# EAGLE library part THS4062 (library texas-instruments)
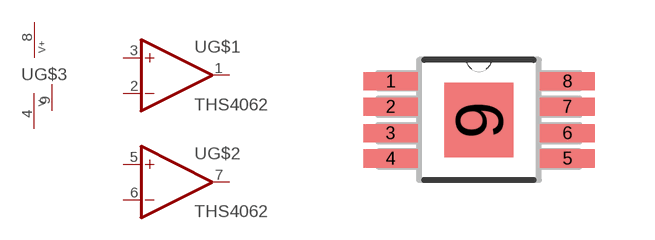
[diagram p29: symbol with the pads of MSOP08-POWERPAD1; footprint MSOP08-POWERPAD1]

Designator prefix U; gates G$1=OC G$2=OC G$3=PWR+-THERM

## THS4062PAD (DIGIKEY: 296-7546-1-ND)  [MSOP08-POWERPAD1]
1  G$1:OUT  oc
2  G$1:-IN  in
3  G$1:+IN  in
4  G$3:V-  pwr
5  G$2:+IN  in
6  G$2:-IN  in
7  G$2:OUT  oc
8  G$3:V+  pwr
9  G$3:TH

## Footprint MSOP08-POWERPAD1 (pad centres in mm)
smd 1.372 x 0.457: 1 -2.21,0.965; 2 -2.21,0.33; 3 -2.21,-0.33; 4 -2.21,-0.965; 5 2.21,-0.965; 6 2.21,-0.33; 7 2.21,0.33; 8 2.21,0.965
smd 1.727 x 1.854: 9 0,0